# Altium footprint library 30R.PcbLib: 3 footprints
Each footprint in its own frame and in the unit in brackets; x right, y up, seen from the top. Pads: shape width x height; smd on the part's side, far side on the other; paste and mask are expansions set on the pad; w line width, h text height; cw(c..) or ccw(c..) is an arc to the next point about the centre after c.
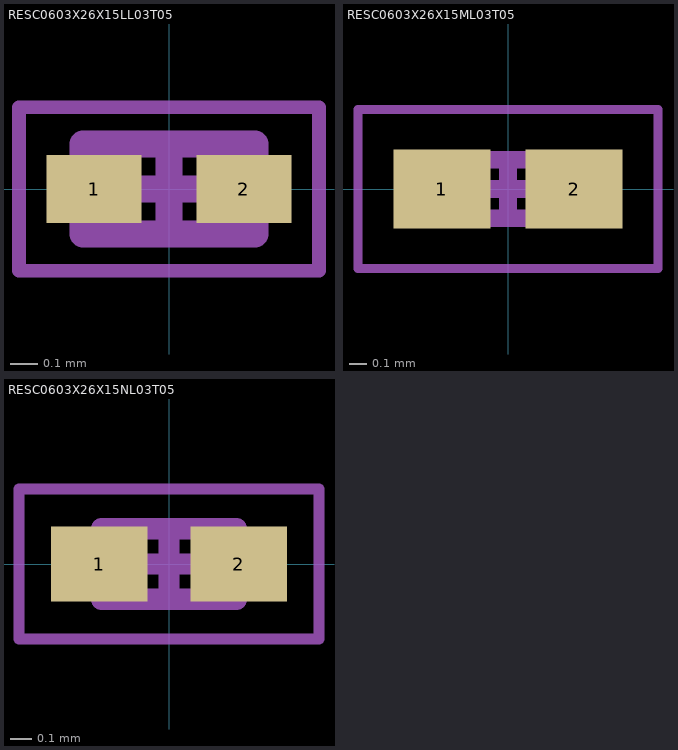
[diagram p0: the footprints below, top view; thin cyan lines are the x and y axes]

## RESC0603X26X15LL03T05 [mm] "Chip Resistor, 2-Leads, Body 0.60x0.30mm, IPC High Density"
height 0.26
pads (2):
  rect 0.35x0.25 smd: 1(-0.275,0) 2(0.275,0)
Mechanical 13:
  lines w0.1: -0.315,-0.165 -0.315,0.165 0.315,0.165 0.315,-0.165 -0.315,-0.165
Mechanical 15:
  lines w0.05: -0.55,-0.3 -0.55,0.3 0.55,0.3 0.55,-0.3 -0.55,-0.3
  lines w0.1: -0.165,0 0.165,0 ; 0,-0.165 0,0.165
3D body: height 0.26, standoff 0, extent -0.165,-0.165 0.165,0.165
3D body: height 0.26, standoff 0, extent -0.315,-0.165 -0.165,0.165
3D body: height 0.26, standoff 0, extent 0.165,-0.165 0.315,0.165

## RESC0603X26X15ML03T05 [mm] "Chip Resistor, 2-Leads, Body 0.60x0.30mm, IPC Low Density"
height 0.26
pads (2):
  rect 0.55x0.45 smd: 1(-0.375,0) 2(0.375,0)
Mechanical 13:
  lines w0.1: -0.315,-0.165 -0.315,0.165 0.315,0.165 0.315,-0.165 -0.315,-0.165
Mechanical 15:
  lines w0.05: -0.85,-0.45 -0.85,0.45 0.85,0.45 0.85,-0.45 -0.85,-0.45
  lines w0.1: -0.165,0 0.165,0 ; 0,-0.165 0,0.165
3D body: height 0.26, standoff 0, extent -0.165,-0.165 0.165,0.165
3D body: height 0.26, standoff 0, extent -0.315,-0.165 -0.165,0.165
3D body: height 0.26, standoff 0, extent 0.165,-0.165 0.315,0.165

## RESC0603X26X15NL03T05 [mm] "Chip Resistor, 2-Leads, Body 0.60x0.30mm, IPC Medium Density"
height 0.26
pads (2):
  rect 0.45x0.35 smd: 1(-0.325,0) 2(0.325,0)
Mechanical 13:
  lines w0.1: -0.315,-0.165 -0.315,0.165 0.315,0.165 0.315,-0.165 -0.315,-0.165
Mechanical 15:
  lines w0.05: -0.7,-0.35 -0.7,0.35 0.7,0.35 0.7,-0.35 -0.7,-0.35
  lines w0.1: -0.165,0 0.165,0 ; 0,-0.165 0,0.165
3D body: height 0.26, standoff 0, extent -0.165,-0.165 0.165,0.165
3D body: height 0.26, standoff 0, extent -0.315,-0.165 -0.165,0.165
3D body: height 0.26, standoff 0, extent 0.165,-0.165 0.315,0.165